# EAGLE library part ESP-PROG_JTAG_HEADER (library ESP-PROG)
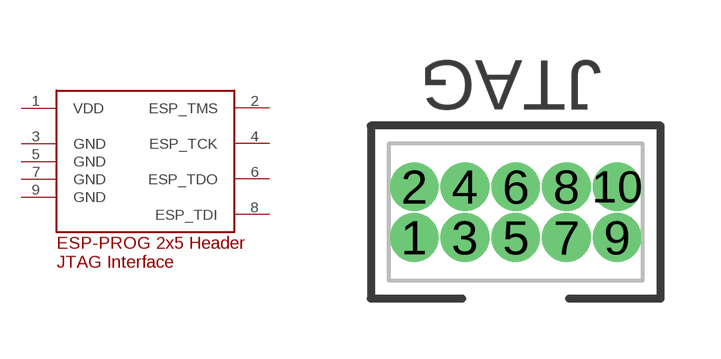
[diagram p0: symbol with the pads of SAMTEC-FTS-105-01-X-D; footprint SAMTEC-FTS-105-01-X-D]

Designator prefix -

## ESP-PROG_JTAG_HEADER  [SAMTEC-FTS-105-01-X-D]
1  VDD
2  ESP_TMS
3  GND
4  ESP_TCK
5  GND
6  ESP_TDO
7  GND
8  ESP_TDI
9  GND

## Footprint SAMTEC-FTS-105-01-X-D (pad centres in mm)
translated Allegro footprint
drill 0.71 pad 1.143: 1 -2.54,-0.635; 2 -2.54,0.635; 3 -1.27,-0.635; 4 -1.27,0.635; 5 0,-0.635; 6 0,0.635; 7 1.27,-0.635; 8 1.27,0.635; 9 2.54,-0.635; 10 2.54,0.635